# Altium integrated library TI Data Converters Digital to Analog Converter.IntLib: 1533 symbols (part 73 of 99)
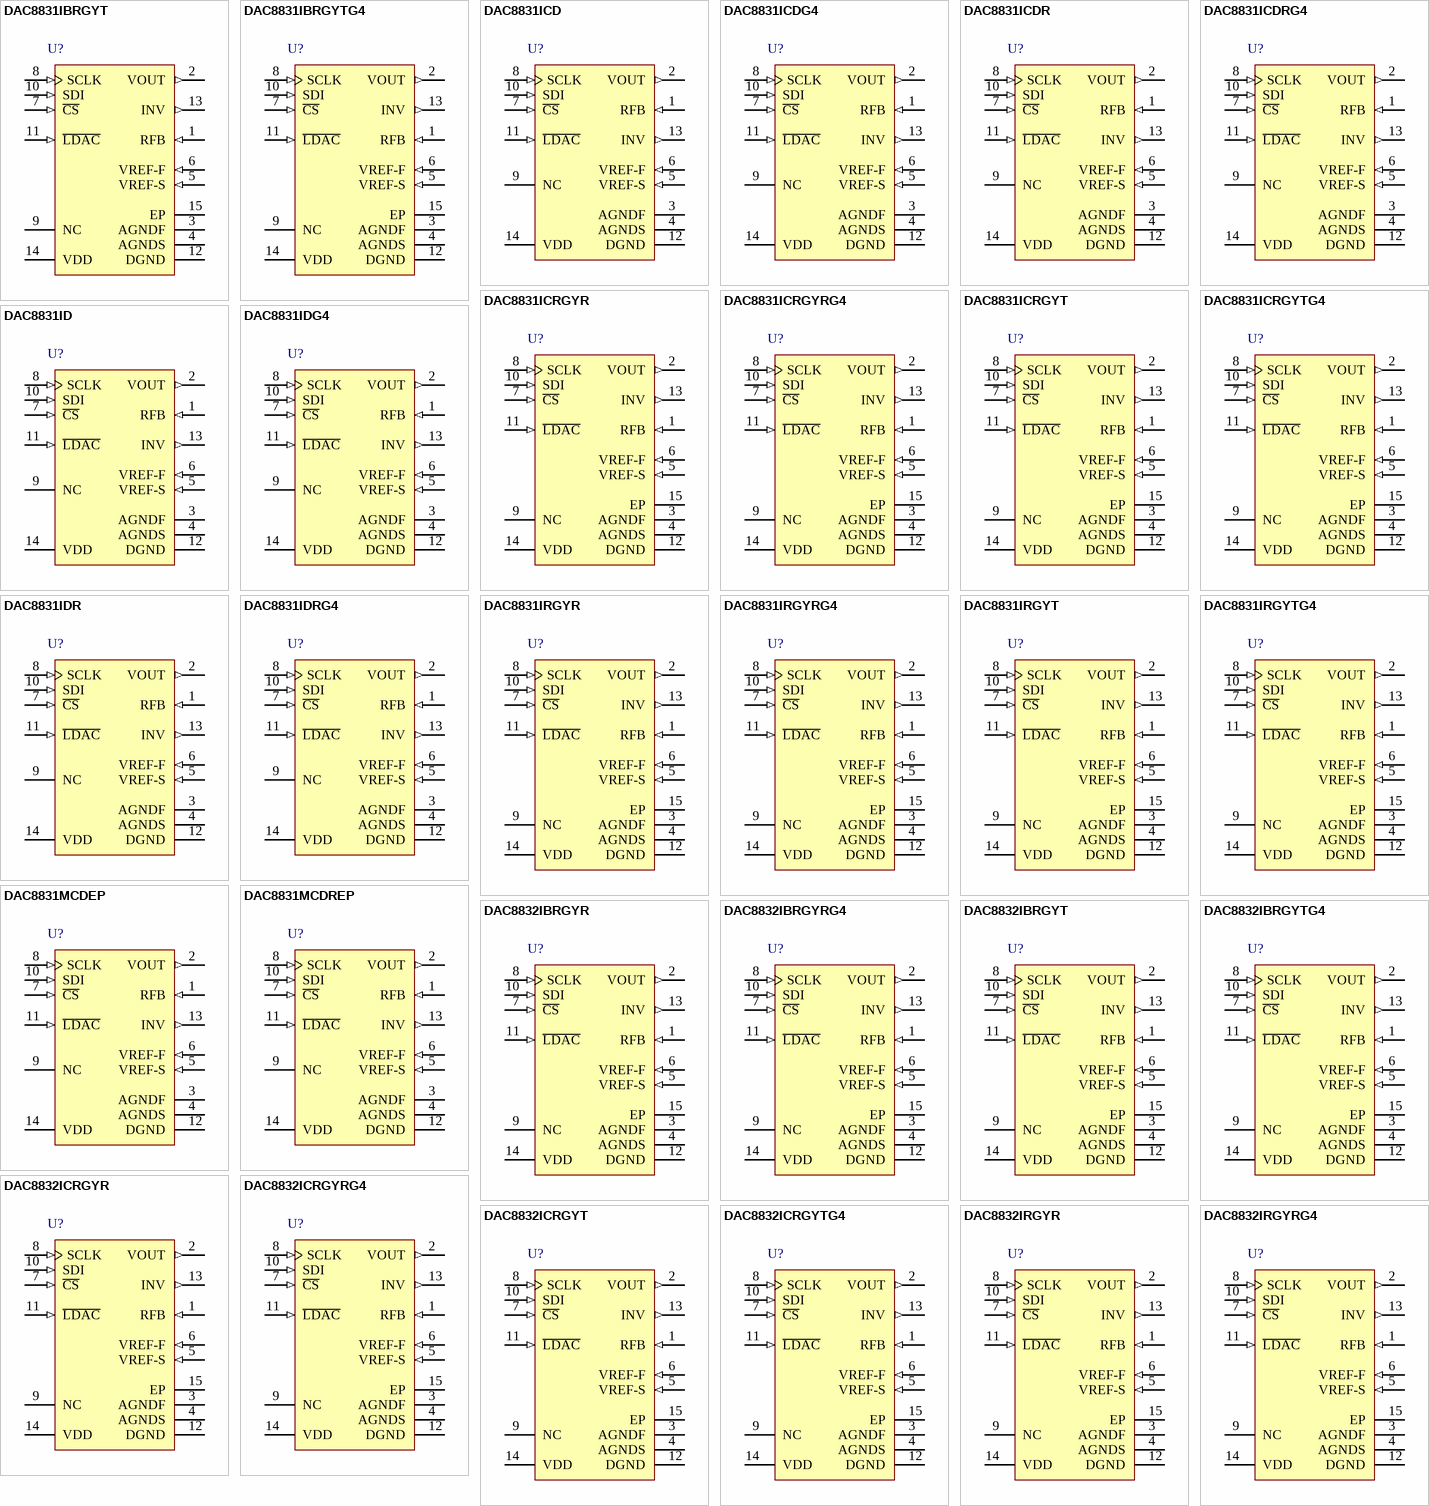
[diagram p145: symbols DAC8831IBRGYT to DAC8832IRGYRG4]

## DAC8832IBRGYRG4
designator U?
16-Bit Ultra-Low Power Voltage Output DAC, -40 to 85 degC, 14-pin QFN (RGY14), Green (RoHS & no Sb/Br); Manufacturer: Texas Instruments; PartNumber: DAC8832IBRGYRG4; DAC Channels: 1; INL(Max)(+/-LSB): 2; Interface: Serial SPI; Power Consumption(Typ)(mW): 0.015; Resolution(Bits): 16; SNR(dB): 92; SubFamily: Precision DAC (=<10MSPS); DatasheetVersion: SBAS380B; PackageVersion: 4203539-2/I, 06/2011; PackageReference: RGY14-2050X2050TP; PackageDescription: 14-Pin Plastic Flat Pack, Body 3.5 x 3.5 mm, Pitch 0.5 mm; Supplier 1: Digi-Key; Supplier Part Number 1: DAC8832IBRGYRG4-ND; Supplier 2: Mouser; Supplier Part Number 2: 595-DAC8832IBRGYRG4; DNL(Max)(+/-LSB): 1; Eco-Plan: Green (RoHS & no Sb/Br); Settling Time(us): 1; Mounting Technology: Surface Mount; Code_JEDEC: MO-241; ComponentLink1Description: Manufacturer URL; ComponentLink1URL: http://www.ti.com/; ComponentLink2Description: Datasheet; ComponentLink2URL: http://www.ti.com/general/docs/lit/getliterature.tsp?genericPartNumber=DAC8832&fileType=pdf; ComponentLink3Description: Package Specification; ComponentLink3URL: http://www.ti.com/lit/ml/mpqf114g/mpqf114g.pdf
footprint TI-RGY14-2050X2050TP_V (QFN, 14-Leads, Body 3.5x3.5mm, Pitch 0.5mm, Thermal Pad 2.05x2.05mm)
pins: 1 RFB (in) "Feedback resistor. Connect to the output of external operational amplifier in bipolar mode.", 2 VOUT (out) "Analog output of DAC", 3 AGNDF (power) "Analog ground (Force)", 4 AGNDS (power) "Analog ground (Sense)", 5 VREF-S (in) "Voltage reference input (Sense). Connect to external voltage reference", 6 VREF-F (in) "Voltage reference input (Force). Connect to external voltage reference", 7 ~{CS} (in) "Chip select input (active low). Data are not clocked into SDI unless C\S\ is low.", 8 SCLK (in) "Serial clock input.", 9 NC "No internal connection", 10 SDI (in) "Serial data input. Data are latched into input register on the rising edge of SCLK", 11 ~{LDAC} (in) "Load DAC control input. Active low. When L\D\A\C\ is Low, the DAC latch is simultaneously updated with the content of the input register.", 12 DGND (power) "Digital ground", 13 INV (out) "Junction point of internal scaling resistors. Connect to external operational amplifier inverting input in bipolar mode.", 14 VDD (power) "Analog power supply, +3 V to +5 V", 15 EP (power) "Exposed thermal pad in the QFN package must be connected to analog ground."

## DAC8832IBRGYT
designator U?
16-Bit Ultra-Low Power Voltage Output DAC, -40 to 85 degC, 14-pin QFN (RGY14), Green (RoHS & no Sb/Br); Manufacturer: Texas Instruments; PartNumber: DAC8832IBRGYT; DAC Channels: 1; INL(Max)(+/-LSB): 2; Interface: Serial SPI; Power Consumption(Typ)(mW): 0.015; Resolution(Bits): 16; SNR(dB): 92; SubFamily: Precision DAC (=<10MSPS); DatasheetVersion: SBAS380B; PackageVersion: 4203539-2/I, 06/2011; PackageReference: RGY14-2050X2050TP; PackageDescription: 14-Pin Plastic Flat Pack, Body 3.5 x 3.5 mm, Pitch 0.5 mm; Supplier 1: Digi-Key; Supplier Part Number 1: DAC8832IBRGYT-ND; Supplier 2: Mouser; Supplier Part Number 2: 595-DAC8832IBRGYT; DNL(Max)(+/-LSB): 1; Eco-Plan: Green (RoHS & no Sb/Br); Settling Time(us): 1; Mounting Technology: Surface Mount; Code_JEDEC: MO-241; ComponentLink1Description: Manufacturer URL; ComponentLink1URL: http://www.ti.com/; ComponentLink2Description: Datasheet; ComponentLink2URL: http://www.ti.com/general/docs/lit/getliterature.tsp?genericPartNumber=DAC8832&fileType=pdf; ComponentLink3Description: Package Specification; ComponentLink3URL: http://www.ti.com/lit/ml/mpqf114g/mpqf114g.pdf
footprint TI-RGY14-2050X2050TP_V (QFN, 14-Leads, Body 3.5x3.5mm, Pitch 0.5mm, Thermal Pad 2.05x2.05mm)
pins: 1 RFB (in) "Feedback resistor. Connect to the output of external operational amplifier in bipolar mode.", 2 VOUT (out) "Analog output of DAC", 3 AGNDF (power) "Analog ground (Force)", 4 AGNDS (power) "Analog ground (Sense)", 5 VREF-S (in) "Voltage reference input (Sense). Connect to external voltage reference", 6 VREF-F (in) "Voltage reference input (Force). Connect to external voltage reference", 7 ~{CS} (in) "Chip select input (active low). Data are not clocked into SDI unless C\S\ is low.", 8 SCLK (in) "Serial clock input.", 9 NC "No internal connection", 10 SDI (in) "Serial data input. Data are latched into input register on the rising edge of SCLK", 11 ~{LDAC} (in) "Load DAC control input. Active low. When L\D\A\C\ is Low, the DAC latch is simultaneously updated with the content of the input register.", 12 DGND (power) "Digital ground", 13 INV (out) "Junction point of internal scaling resistors. Connect to external operational amplifier inverting input in bipolar mode.", 14 VDD (power) "Analog power supply, +3 V to +5 V", 15 EP (power) "Exposed thermal pad in the QFN package must be connected to analog ground."

## DAC8832IBRGYTG4
designator U?
16-Bit Ultra-Low Power Voltage Output DAC, -40 to 85 degC, 14-pin QFN (RGY14), Green (RoHS & no Sb/Br); Manufacturer: Texas Instruments; PartNumber: DAC8832IBRGYTG4; DAC Channels: 1; INL(Max)(+/-LSB): 2; Interface: Serial SPI; Power Consumption(Typ)(mW): 0.015; Resolution(Bits): 16; SNR(dB): 92; SubFamily: Precision DAC (=<10MSPS); DatasheetVersion: SBAS380B; PackageVersion: 4203539-2/I, 06/2011; PackageReference: RGY14-2050X2050TP; PackageDescription: 14-Pin Plastic Flat Pack, Body 3.5 x 3.5 mm, Pitch 0.5 mm; Supplier 1: Digi-Key; Supplier Part Number 1: DAC8832IBRGYTG4-ND; Supplier 2: Mouser; Supplier Part Number 2: 595-DAC8832IBRGYTG4; DNL(Max)(+/-LSB): 1; Eco-Plan: Green (RoHS & no Sb/Br); Settling Time(us): 1; Mounting Technology: Surface Mount; Code_JEDEC: MO-241; ComponentLink1Description: Manufacturer URL; ComponentLink1URL: http://www.ti.com/; ComponentLink2Description: Datasheet; ComponentLink2URL: http://www.ti.com/general/docs/lit/getliterature.tsp?genericPartNumber=DAC8832&fileType=pdf; ComponentLink3Description: Package Specification; ComponentLink3URL: http://www.ti.com/lit/ml/mpqf114g/mpqf114g.pdf
footprint TI-RGY14-2050X2050TP_V (QFN, 14-Leads, Body 3.5x3.5mm, Pitch 0.5mm, Thermal Pad 2.05x2.05mm)
pins: 1 RFB (in) "Feedback resistor. Connect to the output of external operational amplifier in bipolar mode.", 2 VOUT (out) "Analog output of DAC", 3 AGNDF (power) "Analog ground (Force)", 4 AGNDS (power) "Analog ground (Sense)", 5 VREF-S (in) "Voltage reference input (Sense). Connect to external voltage reference", 6 VREF-F (in) "Voltage reference input (Force). Connect to external voltage reference", 7 ~{CS} (in) "Chip select input (active low). Data are not clocked into SDI unless C\S\ is low.", 8 SCLK (in) "Serial clock input.", 9 NC "No internal connection", 10 SDI (in) "Serial data input. Data are latched into input register on the rising edge of SCLK", 11 ~{LDAC} (in) "Load DAC control input. Active low. When L\D\A\C\ is Low, the DAC latch is simultaneously updated with the content of the input register.", 12 DGND (power) "Digital ground", 13 INV (out) "Junction point of internal scaling resistors. Connect to external operational amplifier inverting input in bipolar mode.", 14 VDD (power) "Analog power supply, +3 V to +5 V", 15 EP (power) "Exposed thermal pad in the QFN package must be connected to analog ground."

## DAC8832ICRGYR
designator U?
16-Bit Ultra-Low Power Voltage Output DAC, -40 to 85 degC, 14-pin QFN (RGY14), Green (RoHS & no Sb/Br); Manufacturer: Texas Instruments; PartNumber: DAC8832ICRGYR; DAC Channels: 1; Interface: Serial SPI; Power Consumption(Typ)(mW): 0.015; Resolution(Bits): 16; SNR(dB): 92; SubFamily: Precision DAC (=<10MSPS); DatasheetVersion: SBAS380B; PackageVersion: 4203539-2/I, 06/2011; PackageReference: RGY14-2050X2050TP; PackageDescription: 14-Pin Plastic Flat Pack, Body 3.5 x 3.5 mm, Pitch 0.5 mm; Supplier 1: Digi-Key; Supplier Part Number 1: DAC8832ICRGYR-ND; Supplier 2: Newark; Supplier Part Number 2: 81K1788; Supplier 3: Mouser; Supplier Part Number 3: 595-DAC8832ICRGYR; DNL(Max)(+/-LSB): 1; Eco-Plan: Green (RoHS & no Sb/Br); INL(Max)(+/-LSB): 1; Settling Time(us): 1; Mounting Technology: Surface Mount; Code_JEDEC: MO-241; ComponentLink1Description: Manufacturer URL; ComponentLink1URL: http://www.ti.com/; ComponentLink2Description: Datasheet; ComponentLink2URL: http://www.ti.com/general/docs/lit/getliterature.tsp?genericPartNumber=DAC8832&fileType=pdf; ComponentLink3Description: Package Specification; ComponentLink3URL: http://www.ti.com/lit/ml/mpqf114g/mpqf114g.pdf
footprint TI-RGY14-2050X2050TP_V (QFN, 14-Leads, Body 3.5x3.5mm, Pitch 0.5mm, Thermal Pad 2.05x2.05mm)
pins: 1 RFB (in) "Feedback resistor. Connect to the output of external operational amplifier in bipolar mode.", 2 VOUT (out) "Analog output of DAC", 3 AGNDF (power) "Analog ground (Force)", 4 AGNDS (power) "Analog ground (Sense)", 5 VREF-S (in) "Voltage reference input (Sense). Connect to external voltage reference", 6 VREF-F (in) "Voltage reference input (Force). Connect to external voltage reference", 7 ~{CS} (in) "Chip select input (active low). Data are not clocked into SDI unless C\S\ is low.", 8 SCLK (in) "Serial clock input.", 9 NC "No internal connection", 10 SDI (in) "Serial data input. Data are latched into input register on the rising edge of SCLK", 11 ~{LDAC} (in) "Load DAC control input. Active low. When L\D\A\C\ is Low, the DAC latch is simultaneously updated with the content of the input register.", 12 DGND (power) "Digital ground", 13 INV (out) "Junction point of internal scaling resistors. Connect to external operational amplifier inverting input in bipolar mode.", 14 VDD (power) "Analog power supply, +3 V to +5 V", 15 EP (power) "Exposed thermal pad in the QFN package must be connected to analog ground."

## DAC8832ICRGYRG4
designator U?
16-Bit Ultra-Low Power Voltage Output DAC, -40 to 85 degC, 14-pin QFN (RGY14), Green (RoHS & no Sb/Br); Manufacturer: Texas Instruments; PartNumber: DAC8832ICRGYRG4; DAC Channels: 1; Interface: Serial SPI; Power Consumption(Typ)(mW): 0.015; Resolution(Bits): 16; SNR(dB): 92; SubFamily: Precision DAC (=<10MSPS); DatasheetVersion: SBAS380B; PackageVersion: 4203539-2/I, 06/2011; PackageReference: RGY14-2050X2050TP; PackageDescription: 14-Pin Plastic Flat Pack, Body 3.5 x 3.5 mm, Pitch 0.5 mm; Supplier 1: Digi-Key; Supplier Part Number 1: DAC8832ICRGYRG4-ND; Supplier 2: Mouser; Supplier Part Number 2: 595-DAC8832ICRGYRG4; DNL(Max)(+/-LSB): 1; Eco-Plan: Green (RoHS & no Sb/Br); INL(Max)(+/-LSB): 1; Settling Time(us): 1; Mounting Technology: Surface Mount; Code_JEDEC: MO-241; ComponentLink1Description: Manufacturer URL; ComponentLink1URL: http://www.ti.com/; ComponentLink2Description: Datasheet; ComponentLink2URL: http://www.ti.com/general/docs/lit/getliterature.tsp?genericPartNumber=DAC8832&fileType=pdf; ComponentLink3Description: Package Specification; ComponentLink3URL: http://www.ti.com/lit/ml/mpqf114g/mpqf114g.pdf
footprint TI-RGY14-2050X2050TP_V (QFN, 14-Leads, Body 3.5x3.5mm, Pitch 0.5mm, Thermal Pad 2.05x2.05mm)
pins: 1 RFB (in) "Feedback resistor. Connect to the output of external operational amplifier in bipolar mode.", 2 VOUT (out) "Analog output of DAC", 3 AGNDF (power) "Analog ground (Force)", 4 AGNDS (power) "Analog ground (Sense)", 5 VREF-S (in) "Voltage reference input (Sense). Connect to external voltage reference", 6 VREF-F (in) "Voltage reference input (Force). Connect to external voltage reference", 7 ~{CS} (in) "Chip select input (active low). Data are not clocked into SDI unless C\S\ is low.", 8 SCLK (in) "Serial clock input.", 9 NC "No internal connection", 10 SDI (in) "Serial data input. Data are latched into input register on the rising edge of SCLK", 11 ~{LDAC} (in) "Load DAC control input. Active low. When L\D\A\C\ is Low, the DAC latch is simultaneously updated with the content of the input register.", 12 DGND (power) "Digital ground", 13 INV (out) "Junction point of internal scaling resistors. Connect to external operational amplifier inverting input in bipolar mode.", 14 VDD (power) "Analog power supply, +3 V to +5 V", 15 EP (power) "Exposed thermal pad in the QFN package must be connected to analog ground."

## DAC8832ICRGYT
designator U?
16-Bit Ultra-Low Power Voltage Output DAC, -40 to 85 degC, 14-pin QFN (RGY14), Green (RoHS & no Sb/Br); Manufacturer: Texas Instruments; PartNumber: DAC8832ICRGYT; DAC Channels: 1; Interface: Serial SPI; Power Consumption(Typ)(mW): 0.015; Resolution(Bits): 16; SNR(dB): 92; SubFamily: Precision DAC (=<10MSPS); DatasheetVersion: SBAS380B; PackageVersion: 4203539-2/I, 06/2011; PackageReference: RGY14-2050X2050TP; PackageDescription: 14-Pin Plastic Flat Pack, Body 3.5 x 3.5 mm, Pitch 0.5 mm; Supplier 1: Digi-Key; Supplier Part Number 1: 296-19588-2-ND; Supplier 2: Digi-Key; Supplier Part Number 2: 296-19588-1-ND; Supplier 3: Digi-Key; Supplier Part Number 3: 296-19588-6-ND; Supplier 4: Mouser; Supplier Part Number 4: 595-DAC8832ICRGYT; DNL(Max)(+/-LSB): 1; Eco-Plan: Green (RoHS & no Sb/Br); INL(Max)(+/-LSB): 1; Settling Time(us): 1; Mounting Technology: Surface Mount; Code_JEDEC: MO-241; ComponentLink1Description: Manufacturer URL; ComponentLink1URL: http://www.ti.com/; ComponentLink2Description: Datasheet; ComponentLink2URL: http://www.ti.com/general/docs/lit/getliterature.tsp?genericPartNumber=DAC8832&fileType=pdf; ComponentLink3Description: Package Specification; ComponentLink3URL: http://www.ti.com/lit/ml/mpqf114g/mpqf114g.pdf
footprint TI-RGY14-2050X2050TP_V (QFN, 14-Leads, Body 3.5x3.5mm, Pitch 0.5mm, Thermal Pad 2.05x2.05mm)
pins: 1 RFB (in) "Feedback resistor. Connect to the output of external operational amplifier in bipolar mode.", 2 VOUT (out) "Analog output of DAC", 3 AGNDF (power) "Analog ground (Force)", 4 AGNDS (power) "Analog ground (Sense)", 5 VREF-S (in) "Voltage reference input (Sense). Connect to external voltage reference", 6 VREF-F (in) "Voltage reference input (Force). Connect to external voltage reference", 7 ~{CS} (in) "Chip select input (active low). Data are not clocked into SDI unless C\S\ is low.", 8 SCLK (in) "Serial clock input.", 9 NC "No internal connection", 10 SDI (in) "Serial data input. Data are latched into input register on the rising edge of SCLK", 11 ~{LDAC} (in) "Load DAC control input. Active low. When L\D\A\C\ is Low, the DAC latch is simultaneously updated with the content of the input register.", 12 DGND (power) "Digital ground", 13 INV (out) "Junction point of internal scaling resistors. Connect to external operational amplifier inverting input in bipolar mode.", 14 VDD (power) "Analog power supply, +3 V to +5 V", 15 EP (power) "Exposed thermal pad in the QFN package must be connected to analog ground."

## DAC8832ICRGYTG4
designator U?
16-Bit Ultra-Low Power Voltage Output DAC, -40 to 85 degC, 14-pin QFN (RGY14), Green (RoHS & no Sb/Br); Manufacturer: Texas Instruments; PartNumber: DAC8832ICRGYTG4; DAC Channels: 1; Interface: Serial SPI; Power Consumption(Typ)(mW): 0.015; Resolution(Bits): 16; SNR(dB): 92; SubFamily: Precision DAC (=<10MSPS); DatasheetVersion: SBAS380B; PackageVersion: 4203539-2/I, 06/2011; PackageReference: RGY14-2050X2050TP; PackageDescription: 14-Pin Plastic Flat Pack, Body 3.5 x 3.5 mm, Pitch 0.5 mm; Supplier 1: Digi-Key; Supplier Part Number 1: DAC8832ICRGYTG4-ND; Supplier 2: Mouser; Supplier Part Number 2: 595-DAC8832ICRGYTG4; DNL(Max)(+/-LSB): 1; Eco-Plan: Green (RoHS & no Sb/Br); INL(Max)(+/-LSB): 1; Settling Time(us): 1; Mounting Technology: Surface Mount; Code_JEDEC: MO-241; ComponentLink1Description: Manufacturer URL; ComponentLink1URL: http://www.ti.com/; ComponentLink2Description: Datasheet; ComponentLink2URL: http://www.ti.com/general/docs/lit/getliterature.tsp?genericPartNumber=DAC8832&fileType=pdf; ComponentLink3Description: Package Specification; ComponentLink3URL: http://www.ti.com/lit/ml/mpqf114g/mpqf114g.pdf
footprint TI-RGY14-2050X2050TP_V (QFN, 14-Leads, Body 3.5x3.5mm, Pitch 0.5mm, Thermal Pad 2.05x2.05mm)
pins: 1 RFB (in) "Feedback resistor. Connect to the output of external operational amplifier in bipolar mode.", 2 VOUT (out) "Analog output of DAC", 3 AGNDF (power) "Analog ground (Force)", 4 AGNDS (power) "Analog ground (Sense)", 5 VREF-S (in) "Voltage reference input (Sense). Connect to external voltage reference", 6 VREF-F (in) "Voltage reference input (Force). Connect to external voltage reference", 7 ~{CS} (in) "Chip select input (active low). Data are not clocked into SDI unless C\S\ is low.", 8 SCLK (in) "Serial clock input.", 9 NC "No internal connection", 10 SDI (in) "Serial data input. Data are latched into input register on the rising edge of SCLK", 11 ~{LDAC} (in) "Load DAC control input. Active low. When L\D\A\C\ is Low, the DAC latch is simultaneously updated with the content of the input register.", 12 DGND (power) "Digital ground", 13 INV (out) "Junction point of internal scaling resistors. Connect to external operational amplifier inverting input in bipolar mode.", 14 VDD (power) "Analog power supply, +3 V to +5 V", 15 EP (power) "Exposed thermal pad in the QFN package must be connected to analog ground."

## DAC8832IRGYR
designator U?
16-Bit Ultra-Low Power Voltage Output DAC, -40 to 85 degC, 14-pin QFN (RGY14), Green (RoHS & no Sb/Br); Manufacturer: Texas Instruments; PartNumber: DAC8832IRGYR; DAC Channels: 1; INL(Max)(+/-LSB): 4; Interface: Serial SPI; Power Consumption(Typ)(mW): 0.015; Resolution(Bits): 16; SNR(dB): 92; SubFamily: Precision DAC (=<10MSPS); DatasheetVersion: SBAS380B; PackageVersion: 4203539-2/I, 06/2011; PackageReference: RGY14-2050X2050TP; PackageDescription: 14-Pin Plastic Flat Pack, Body 3.5 x 3.5 mm, Pitch 0.5 mm; Supplier 1: Digi-Key; Supplier Part Number 1: 296-25818-2-ND; Supplier 2: Digi-Key; Supplier Part Number 2: 296-25818-1-ND; Supplier 3: Digi-Key; Supplier Part Number 3: 296-25818-6-ND; Supplier 4: Newark; Supplier Part Number 4: 81K1790; Supplier 5: Mouser; Supplier Part Number 5: 595-DAC8832IRGYR; DNL(Max)(+/-LSB): 1; Eco-Plan: Green (RoHS & no Sb/Br); Settling Time(us): 1; Mounting Technology: Surface Mount; Code_JEDEC: MO-241; ComponentLink1Description: Manufacturer URL; ComponentLink1URL: http://www.ti.com/; ComponentLink2Description: Datasheet; ComponentLink2URL: http://www.ti.com/general/docs/lit/getliterature.tsp?genericPartNumber=DAC8832&fileType=pdf; ComponentLink3Description: Package Specification; ComponentLink3URL: http://www.ti.com/lit/ml/mpqf114g/mpqf114g.pdf
footprint TI-RGY14-2050X2050TP_V (QFN, 14-Leads, Body 3.5x3.5mm, Pitch 0.5mm, Thermal Pad 2.05x2.05mm)
pins: 1 RFB (in) "Feedback resistor. Connect to the output of external operational amplifier in bipolar mode.", 2 VOUT (out) "Analog output of DAC", 3 AGNDF (power) "Analog ground (Force)", 4 AGNDS (power) "Analog ground (Sense)", 5 VREF-S (in) "Voltage reference input (Sense). Connect to external voltage reference", 6 VREF-F (in) "Voltage reference input (Force). Connect to external voltage reference", 7 ~{CS} (in) "Chip select input (active low). Data are not clocked into SDI unless C\S\ is low.", 8 SCLK (in) "Serial clock input.", 9 NC "No internal connection", 10 SDI (in) "Serial data input. Data are latched into input register on the rising edge of SCLK", 11 ~{LDAC} (in) "Load DAC control input. Active low. When L\D\A\C\ is Low, the DAC latch is simultaneously updated with the content of the input register.", 12 DGND (power) "Digital ground", 13 INV (out) "Junction point of internal scaling resistors. Connect to external operational amplifier inverting input in bipolar mode.", 14 VDD (power) "Analog power supply, +3 V to +5 V", 15 EP (power) "Exposed thermal pad in the QFN package must be connected to analog ground."

## DAC8832IRGYRG4
designator U?
16-Bit Ultra-Low Power Voltage Output DAC, -40 to 85 degC, 14-pin QFN (RGY14), Green (RoHS & no Sb/Br); Manufacturer: Texas Instruments; PartNumber: DAC8832IRGYRG4; DAC Channels: 1; INL(Max)(+/-LSB): 4; Interface: Serial SPI; Power Consumption(Typ)(mW): 0.015; Resolution(Bits): 16; SNR(dB): 92; SubFamily: Precision DAC (=<10MSPS); DatasheetVersion: SBAS380B; PackageVersion: 4203539-2/I, 06/2011; PackageReference: RGY14-2050X2050TP; PackageDescription: 14-Pin Plastic Flat Pack, Body 3.5 x 3.5 mm, Pitch 0.5 mm; Supplier 1: Digi-Key; Supplier Part Number 1: DAC8832IRGYRG4-ND; Supplier 2: Mouser; Supplier Part Number 2: 595-DAC8832IRGYRG4; DNL(Max)(+/-LSB): 1; Eco-Plan: Green (RoHS & no Sb/Br); Settling Time(us): 1; Mounting Technology: Surface Mount; Code_JEDEC: MO-241; ComponentLink1Description: Manufacturer URL; ComponentLink1URL: http://www.ti.com/; ComponentLink2Description: Datasheet; ComponentLink2URL: http://www.ti.com/general/docs/lit/getliterature.tsp?genericPartNumber=DAC8832&fileType=pdf; ComponentLink3Description: Package Specification; ComponentLink3URL: http://www.ti.com/lit/ml/mpqf114g/mpqf114g.pdf
footprint TI-RGY14-2050X2050TP_V (QFN, 14-Leads, Body 3.5x3.5mm, Pitch 0.5mm, Thermal Pad 2.05x2.05mm)
pins: 1 RFB (in) "Feedback resistor. Connect to the output of external operational amplifier in bipolar mode.", 2 VOUT (out) "Analog output of DAC", 3 AGNDF (power) "Analog ground (Force)", 4 AGNDS (power) "Analog ground (Sense)", 5 VREF-S (in) "Voltage reference input (Sense). Connect to external voltage reference", 6 VREF-F (in) "Voltage reference input (Force). Connect to external voltage reference", 7 ~{CS} (in) "Chip select input (active low). Data are not clocked into SDI unless C\S\ is low.", 8 SCLK (in) "Serial clock input.", 9 NC "No internal connection", 10 SDI (in) "Serial data input. Data are latched into input register on the rising edge of SCLK", 11 ~{LDAC} (in) "Load DAC control input. Active low. When L\D\A\C\ is Low, the DAC latch is simultaneously updated with the content of the input register.", 12 DGND (power) "Digital ground", 13 INV (out) "Junction point of internal scaling resistors. Connect to external operational amplifier inverting input in bipolar mode.", 14 VDD (power) "Analog power supply, +3 V to +5 V", 15 EP (power) "Exposed thermal pad in the QFN package must be connected to analog ground."

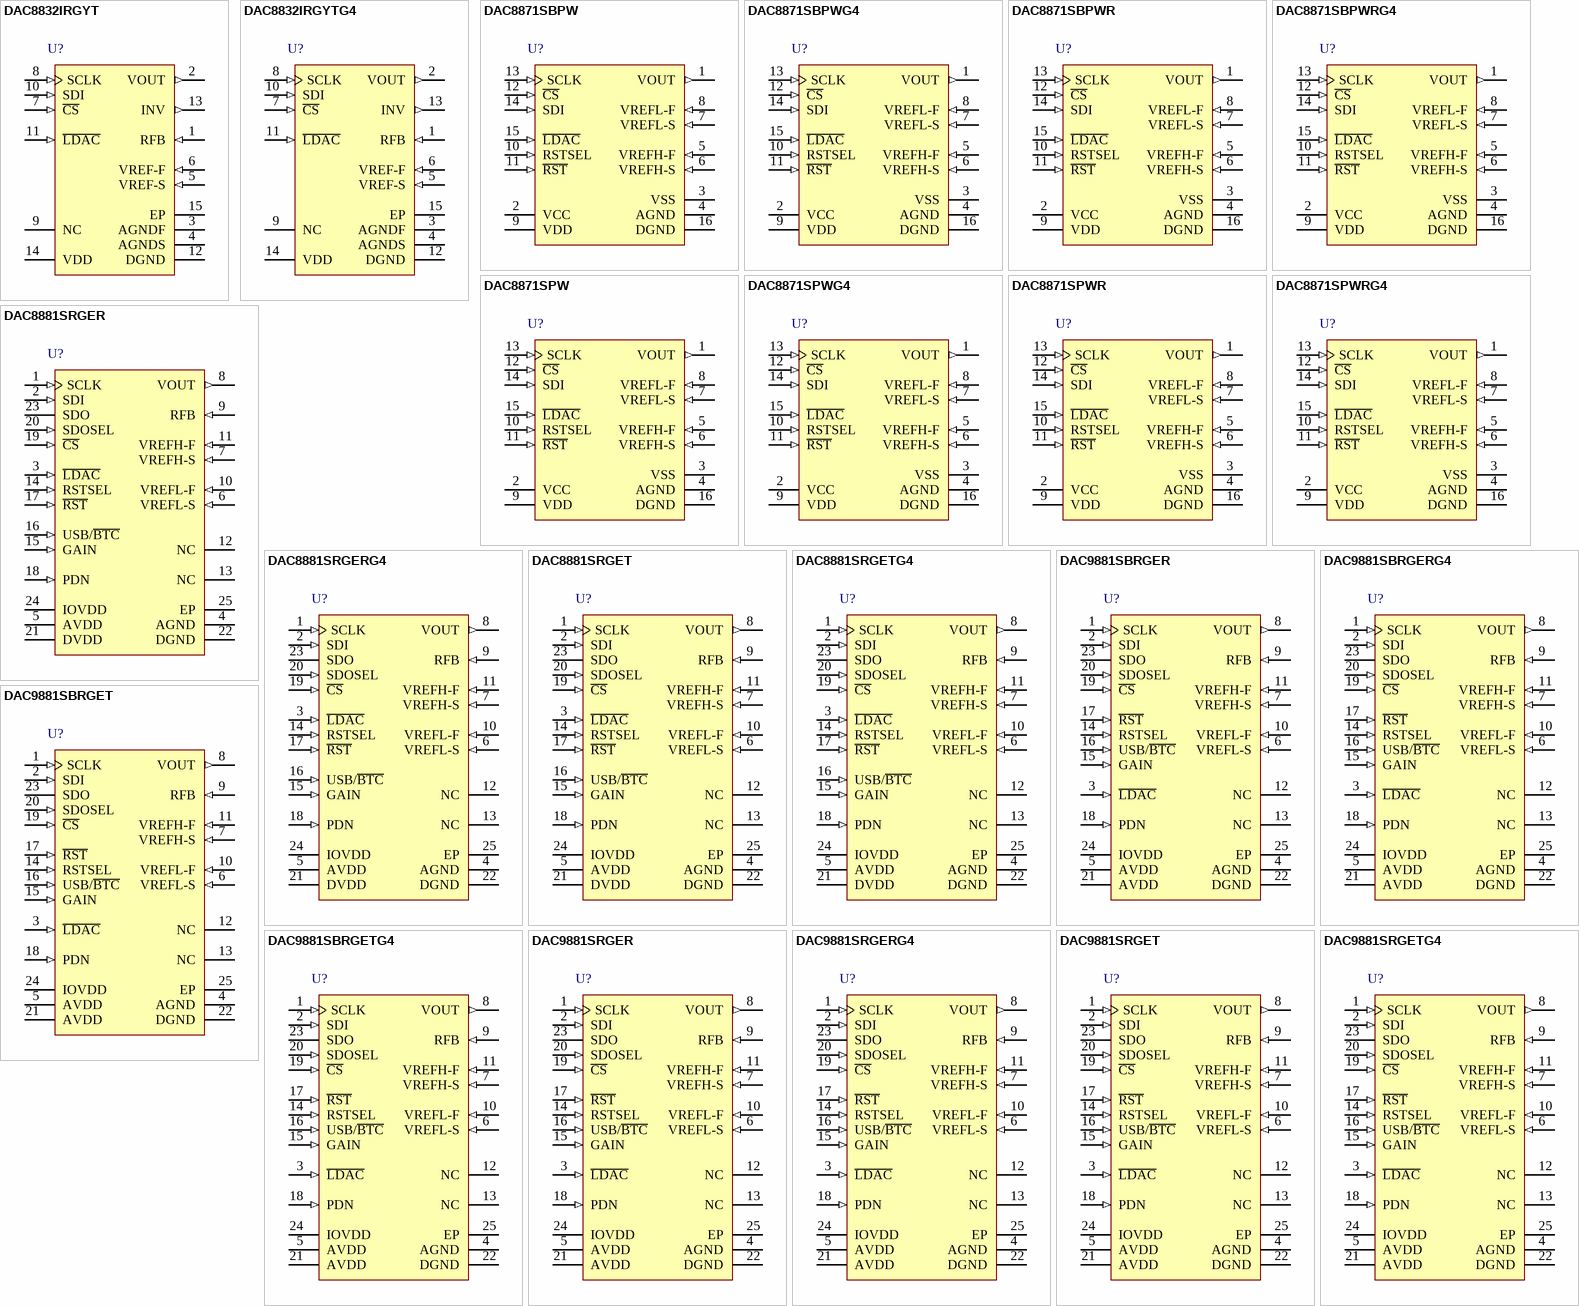
[diagram p55: symbols DAC8832IRGYT to DAC9881SRGETG4]

## DAC8832IRGYT
designator U?
16-Bit Ultra-Low Power Voltage Output DAC, -40 to 85 degC, 14-pin QFN (RGY14), Green (RoHS & no Sb/Br); Manufacturer: Texas Instruments; PartNumber: DAC8832IRGYT; DAC Channels: 1; INL(Max)(+/-LSB): 4; Interface: Serial SPI; Power Consumption(Typ)(mW): 0.015; Resolution(Bits): 16; SNR(dB): 92; SubFamily: Precision DAC (=<10MSPS); DatasheetVersion: SBAS380B; PackageVersion: 4203539-2/I, 06/2011; PackageReference: RGY14-2050X2050TP; PackageDescription: 14-Pin Plastic Flat Pack, Body 3.5 x 3.5 mm, Pitch 0.5 mm; Supplier 1: Digi-Key; Supplier Part Number 1: DAC8832IRGYT-ND; Supplier 2: Mouser; Supplier Part Number 2: 595-DAC8832IRGYT; DNL(Max)(+/-LSB): 1; Eco-Plan: Green (RoHS & no Sb/Br); Settling Time(us): 1; Mounting Technology: Surface Mount; Code_JEDEC: MO-241; ComponentLink1Description: Manufacturer URL; ComponentLink1URL: http://www.ti.com/; ComponentLink2Description: Datasheet; ComponentLink2URL: http://www.ti.com/general/docs/lit/getliterature.tsp?genericPartNumber=DAC8832&fileType=pdf; ComponentLink3Description: Package Specification; ComponentLink3URL: http://www.ti.com/lit/ml/mpqf114g/mpqf114g.pdf
footprint TI-RGY14-2050X2050TP_V (QFN, 14-Leads, Body 3.5x3.5mm, Pitch 0.5mm, Thermal Pad 2.05x2.05mm)
pins: 1 RFB (in) "Feedback resistor. Connect to the output of external operational amplifier in bipolar mode.", 2 VOUT (out) "Analog output of DAC", 3 AGNDF (power) "Analog ground (Force)", 4 AGNDS (power) "Analog ground (Sense)", 5 VREF-S (in) "Voltage reference input (Sense). Connect to external voltage reference", 6 VREF-F (in) "Voltage reference input (Force). Connect to external voltage reference", 7 ~{CS} (in) "Chip select input (active low). Data are not clocked into SDI unless C\S\ is low.", 8 SCLK (in) "Serial clock input.", 9 NC "No internal connection", 10 SDI (in) "Serial data input. Data are latched into input register on the rising edge of SCLK", 11 ~{LDAC} (in) "Load DAC control input. Active low. When L\D\A\C\ is Low, the DAC latch is simultaneously updated with the content of the input register.", 12 DGND (power) "Digital ground", 13 INV (out) "Junction point of internal scaling resistors. Connect to external operational amplifier inverting input in bipolar mode.", 14 VDD (power) "Analog power supply, +3 V to +5 V", 15 EP (power) "Exposed thermal pad in the QFN package must be connected to analog ground."

## DAC8832IRGYTG4
designator U?
16-Bit Ultra-Low Power Voltage Output DAC, -40 to 85 degC, 14-pin QFN (RGY14), Green (RoHS & no Sb/Br); Manufacturer: Texas Instruments; PartNumber: DAC8832IRGYTG4; DAC Channels: 1; INL(Max)(+/-LSB): 4; Interface: Serial SPI; Power Consumption(Typ)(mW): 0.015; Resolution(Bits): 16; SNR(dB): 92; SubFamily: Precision DAC (=<10MSPS); DatasheetVersion: SBAS380B; PackageVersion: 4203539-2/I, 06/2011; PackageReference: RGY14-2050X2050TP; PackageDescription: 14-Pin Plastic Flat Pack, Body 3.5 x 3.5 mm, Pitch 0.5 mm; Supplier 1: Digi-Key; Supplier Part Number 1: DAC8832IRGYTG4-ND; Supplier 2: Mouser; Supplier Part Number 2: 595-DAC8832IRGYTG4; DNL(Max)(+/-LSB): 1; Eco-Plan: Green (RoHS & no Sb/Br); Settling Time(us): 1; Mounting Technology: Surface Mount; Code_JEDEC: MO-241; ComponentLink1Description: Manufacturer URL; ComponentLink1URL: http://www.ti.com/; ComponentLink2Description: Datasheet; ComponentLink2URL: http://www.ti.com/general/docs/lit/getliterature.tsp?genericPartNumber=DAC8832&fileType=pdf; ComponentLink3Description: Package Specification; ComponentLink3URL: http://www.ti.com/lit/ml/mpqf114g/mpqf114g.pdf
footprint TI-RGY14-2050X2050TP_V (QFN, 14-Leads, Body 3.5x3.5mm, Pitch 0.5mm, Thermal Pad 2.05x2.05mm)
pins: 1 RFB (in) "Feedback resistor. Connect to the output of external operational amplifier in bipolar mode.", 2 VOUT (out) "Analog output of DAC", 3 AGNDF (power) "Analog ground (Force)", 4 AGNDS (power) "Analog ground (Sense)", 5 VREF-S (in) "Voltage reference input (Sense). Connect to external voltage reference", 6 VREF-F (in) "Voltage reference input (Force). Connect to external voltage reference", 7 ~{CS} (in) "Chip select input (active low). Data are not clocked into SDI unless C\S\ is low.", 8 SCLK (in) "Serial clock input.", 9 NC "No internal connection", 10 SDI (in) "Serial data input. Data are latched into input register on the rising edge of SCLK", 11 ~{LDAC} (in) "Load DAC control input. Active low. When L\D\A\C\ is Low, the DAC latch is simultaneously updated with the content of the input register.", 12 DGND (power) "Digital ground", 13 INV (out) "Junction point of internal scaling resistors. Connect to external operational amplifier inverting input in bipolar mode.", 14 VDD (power) "Analog power supply, +3 V to +5 V", 15 EP (power) "Exposed thermal pad in the QFN package must be connected to analog ground."

## DAC8871SBPW
designator U?
16-Bit Single Channel, Serial Interface, + / -18 V (High Voltage Bipolar) Output DAC, -40 to 105 degC, 16-pin SOP (PW16), Green (RoHS & no Sb/Br); Manufacturer: Texas Instruments; PartNumber: DAC8871SBPW; DAC Channels: 1; Interface: Serial SPI; Power Consumption(Typ)(mW): 0.015; Resolution(Bits): 16; SubFamily: Precision DAC (=<10MSPS); DatasheetVersion: SBAS396A; PackageVersion: 4040064-4/G, 02/2011; PackageReference: PW16; PackageDescription: 16-Pin Plastic Small Outline, Body 5 x 4.4 mm, Pitch 0.65 mm; Supplier 1: Digi-Key; Supplier Part Number 1: 296-22150-5-ND; Supplier 2: Mouser; Supplier Part Number 2: 595-DAC8871SBPW; DNL(Max)(+/-LSB): 1; Eco-Plan: Green (RoHS & no Sb/Br); INL(Max)(+/-LSB): 1; Settling Time(us): 1; Mounting Technology: Surface Mount; Code_JEDEC: MO-153; ComponentLink1Description: Manufacturer URL; ComponentLink1URL: http://www.ti.com/; ComponentLink2Description: Datasheet; ComponentLink2URL: http://www.ti.com/general/docs/lit/getliterature.tsp?genericPartNumber=DAC8871&fileType=pdf; ComponentLink3Description: Package Specification; ComponentLink3URL: http://www.ti.com/lit/ml/mpds361/mpds361.pdf
footprint TI-PW16_N (SOP, 16-Leads, Body 5x4.4mm, Pitch 0.65mm, IPC Medium Density)
footprint TI-PW16_L (SOP, 16-Leads, Body 5x4.4mm, Pitch 0.65mm, IPC High Density)
footprint TI-PW16_M (SOP, 16-Leads, Body 5x4.4mm, Pitch 0.65mm, IPC Low Density)
pins: 1 VOUT (out) "Analog output of the DAC", 2 VCC (power) "Positive analog power supply: +15V", 3 VSS (power) "Negative analog power supply: -15V", 4 AGND (power) "Analog ground", 5 VREFH-F (in) "VREFH reference input (Force). Connect to external VREFH.", 6 VREFH-S (in) "VREFH reference input (Sense). Connect to external VREFH.", 7 VREFL-S (in) "VREFL reference input (Sense). Connect to external VREFL.", 8 VREFL-F (in) "VREFL reference input (Force). Connect to external VREFL.", 9 VDD (power) "Digital power. +5V for 5V interface logic; +3V for 3V logic.", 10 RSTSEL (in) "Power-On-Reset select. Determines VOUT after power-on reset. If tied to VDD, the DAC latch is set to mid-scale after power-on, and VOUT is (VREFH - VREFL)/2. If tied to DGND, the DAC latch is cleared ('0'), and VOUT is VREFL.", 11 ~{RST} (in) "Reset (active low)", 12 ~{CS} (in) "Chip select input (active low). Data are not clocked into SDI unless C\S\ is low.", 13 SCLK (in) "Serial clock input", 14 SDI (in) "Serial data input. Data are latched into input register on the rising edge of SCLK.", 15 ~{LDAC} (in) "Load DAC control input (active low). When L\D\A\C\ is low, the DAC latch is simultaneously updated with the content of the input register.", 16 DGND (power) "Digital ground"

## DAC8871SBPWG4
designator U?
16-Bit Single Channel, Serial Interface, + / -18 V (High Voltage Bipolar) Output DAC, -40 to 105 degC, 16-pin SOP (PW16), Green (RoHS & no Sb/Br); Manufacturer: Texas Instruments; PartNumber: DAC8871SBPWG4; DAC Channels: 1; Interface: Serial SPI; Power Consumption(Typ)(mW): 0.015; Resolution(Bits): 16; SubFamily: Precision DAC (=<10MSPS); DatasheetVersion: SBAS396A; PackageVersion: 4040064-4/G, 02/2011; PackageReference: PW16; PackageDescription: 16-Pin Plastic Small Outline, Body 5 x 4.4 mm, Pitch 0.65 mm; Supplier 1: Digi-Key; Supplier Part Number 1: DAC8871SBPWG4-ND; Supplier 2: Mouser; Supplier Part Number 2: 595-DAC8871SBPWG4; DNL(Max)(+/-LSB): 1; Eco-Plan: Green (RoHS & no Sb/Br); INL(Max)(+/-LSB): 1; Settling Time(us): 1; Mounting Technology: Surface Mount; Code_JEDEC: MO-153; ComponentLink1Description: Manufacturer URL; ComponentLink1URL: http://www.ti.com/; ComponentLink2Description: Datasheet; ComponentLink2URL: http://www.ti.com/general/docs/lit/getliterature.tsp?genericPartNumber=DAC8871&fileType=pdf; ComponentLink3Description: Package Specification; ComponentLink3URL: http://www.ti.com/lit/ml/mpds361/mpds361.pdf
footprint TI-PW16_N (SOP, 16-Leads, Body 5x4.4mm, Pitch 0.65mm, IPC Medium Density)
footprint TI-PW16_L (SOP, 16-Leads, Body 5x4.4mm, Pitch 0.65mm, IPC High Density)
footprint TI-PW16_M (SOP, 16-Leads, Body 5x4.4mm, Pitch 0.65mm, IPC Low Density)
pins: 1 VOUT (out) "Analog output of the DAC", 2 VCC (power) "Positive analog power supply: +15V", 3 VSS (power) "Negative analog power supply: -15V", 4 AGND (power) "Analog ground", 5 VREFH-F (in) "VREFH reference input (Force). Connect to external VREFH.", 6 VREFH-S (in) "VREFH reference input (Sense). Connect to external VREFH.", 7 VREFL-S (in) "VREFL reference input (Sense). Connect to external VREFL.", 8 VREFL-F (in) "VREFL reference input (Force). Connect to external VREFL.", 9 VDD (power) "Digital power. +5V for 5V interface logic; +3V for 3V logic.", 10 RSTSEL (in) "Power-On-Reset select. Determines VOUT after power-on reset. If tied to VDD, the DAC latch is set to mid-scale after power-on, and VOUT is (VREFH - VREFL)/2. If tied to DGND, the DAC latch is cleared ('0'), and VOUT is VREFL.", 11 ~{RST} (in) "Reset (active low)", 12 ~{CS} (in) "Chip select input (active low). Data are not clocked into SDI unless C\S\ is low.", 13 SCLK (in) "Serial clock input", 14 SDI (in) "Serial data input. Data are latched into input register on the rising edge of SCLK.", 15 ~{LDAC} (in) "Load DAC control input (active low). When L\D\A\C\ is low, the DAC latch is simultaneously updated with the content of the input register.", 16 DGND (power) "Digital ground"

## DAC8871SBPWR
designator U?
16-Bit Single Channel, Serial Interface, + / -18 V (High Voltage Bipolar) Output DAC, -40 to 105 degC, 16-pin SOP (PW16), Green (RoHS & no Sb/Br); Manufacturer: Texas Instruments; PartNumber: DAC8871SBPWR; DAC Channels: 1; Interface: Serial SPI; Power Consumption(Typ)(mW): 0.015; Resolution(Bits): 16; SubFamily: Precision DAC (=<10MSPS); DatasheetVersion: SBAS396A; PackageVersion: 4040064-4/G, 02/2011; PackageReference: PW16; PackageDescription: 16-Pin Plastic Small Outline, Body 5 x 4.4 mm, Pitch 0.65 mm; Supplier 1: Digi-Key; Supplier Part Number 1: DAC8871SBPWR-ND; Supplier 2: Mouser; Supplier Part Number 2: 595-DAC8871SBPWR; DNL(Max)(+/-LSB): 1; Eco-Plan: Green (RoHS & no Sb/Br); INL(Max)(+/-LSB): 1; Settling Time(us): 1; Mounting Technology: Surface Mount; Code_JEDEC: MO-153; ComponentLink1Description: Manufacturer URL; ComponentLink1URL: http://www.ti.com/; ComponentLink2Description: Datasheet; ComponentLink2URL: http://www.ti.com/general/docs/lit/getliterature.tsp?genericPartNumber=DAC8871&fileType=pdf; ComponentLink3Description: Package Specification; ComponentLink3URL: http://www.ti.com/lit/ml/mpds361/mpds361.pdf
footprint TI-PW16_N (SOP, 16-Leads, Body 5x4.4mm, Pitch 0.65mm, IPC Medium Density)
footprint TI-PW16_L (SOP, 16-Leads, Body 5x4.4mm, Pitch 0.65mm, IPC High Density)
footprint TI-PW16_M (SOP, 16-Leads, Body 5x4.4mm, Pitch 0.65mm, IPC Low Density)
pins: 1 VOUT (out) "Analog output of the DAC", 2 VCC (power) "Positive analog power supply: +15V", 3 VSS (power) "Negative analog power supply: -15V", 4 AGND (power) "Analog ground", 5 VREFH-F (in) "VREFH reference input (Force). Connect to external VREFH.", 6 VREFH-S (in) "VREFH reference input (Sense). Connect to external VREFH.", 7 VREFL-S (in) "VREFL reference input (Sense). Connect to external VREFL.", 8 VREFL-F (in) "VREFL reference input (Force). Connect to external VREFL.", 9 VDD (power) "Digital power. +5V for 5V interface logic; +3V for 3V logic.", 10 RSTSEL (in) "Power-On-Reset select. Determines VOUT after power-on reset. If tied to VDD, the DAC latch is set to mid-scale after power-on, and VOUT is (VREFH - VREFL)/2. If tied to DGND, the DAC latch is cleared ('0'), and VOUT is VREFL.", 11 ~{RST} (in) "Reset (active low)", 12 ~{CS} (in) "Chip select input (active low). Data are not clocked into SDI unless C\S\ is low.", 13 SCLK (in) "Serial clock input", 14 SDI (in) "Serial data input. Data are latched into input register on the rising edge of SCLK.", 15 ~{LDAC} (in) "Load DAC control input (active low). When L\D\A\C\ is low, the DAC latch is simultaneously updated with the content of the input register.", 16 DGND (power) "Digital ground"

## DAC8871SBPWRG4
designator U?
16-Bit Single Channel, Serial Interface, + / -18 V (High Voltage Bipolar) Output DAC, -40 to 105 degC, 16-pin SOP (PW16), Green (RoHS & no Sb/Br); Manufacturer: Texas Instruments; PartNumber: DAC8871SBPWRG4; DAC Channels: 1; Interface: Serial SPI; Power Consumption(Typ)(mW): 0.015; Resolution(Bits): 16; SubFamily: Precision DAC (=<10MSPS); DatasheetVersion: SBAS396A; PackageVersion: 4040064-4/G, 02/2011; PackageReference: PW16; PackageDescription: 16-Pin Plastic Small Outline, Body 5 x 4.4 mm, Pitch 0.65 mm; Supplier 1: Digi-Key; Supplier Part Number 1: DAC8871SBPWRG4-ND; Supplier 2: Mouser; Supplier Part Number 2: 595-DAC8871SBPWRG4; DNL(Max)(+/-LSB): 1; Eco-Plan: Green (RoHS & no Sb/Br); INL(Max)(+/-LSB): 1; Settling Time(us): 1; Mounting Technology: Surface Mount; Code_JEDEC: MO-153; ComponentLink1Description: Manufacturer URL; ComponentLink1URL: http://www.ti.com/; ComponentLink2Description: Datasheet; ComponentLink2URL: http://www.ti.com/general/docs/lit/getliterature.tsp?genericPartNumber=DAC8871&fileType=pdf; ComponentLink3Description: Package Specification; ComponentLink3URL: http://www.ti.com/lit/ml/mpds361/mpds361.pdf
footprint TI-PW16_N (SOP, 16-Leads, Body 5x4.4mm, Pitch 0.65mm, IPC Medium Density)
footprint TI-PW16_L (SOP, 16-Leads, Body 5x4.4mm, Pitch 0.65mm, IPC High Density)
footprint TI-PW16_M (SOP, 16-Leads, Body 5x4.4mm, Pitch 0.65mm, IPC Low Density)
pins: 1 VOUT (out) "Analog output of the DAC", 2 VCC (power) "Positive analog power supply: +15V", 3 VSS (power) "Negative analog power supply: -15V", 4 AGND (power) "Analog ground", 5 VREFH-F (in) "VREFH reference input (Force). Connect to external VREFH.", 6 VREFH-S (in) "VREFH reference input (Sense). Connect to external VREFH.", 7 VREFL-S (in) "VREFL reference input (Sense). Connect to external VREFL.", 8 VREFL-F (in) "VREFL reference input (Force). Connect to external VREFL.", 9 VDD (power) "Digital power. +5V for 5V interface logic; +3V for 3V logic.", 10 RSTSEL (in) "Power-On-Reset select. Determines VOUT after power-on reset. If tied to VDD, the DAC latch is set to mid-scale after power-on, and VOUT is (VREFH - VREFL)/2. If tied to DGND, the DAC latch is cleared ('0'), and VOUT is VREFL.", 11 ~{RST} (in) "Reset (active low)", 12 ~{CS} (in) "Chip select input (active low). Data are not clocked into SDI unless C\S\ is low.", 13 SCLK (in) "Serial clock input", 14 SDI (in) "Serial data input. Data are latched into input register on the rising edge of SCLK.", 15 ~{LDAC} (in) "Load DAC control input (active low). When L\D\A\C\ is low, the DAC latch is simultaneously updated with the content of the input register.", 16 DGND (power) "Digital ground"

## DAC8871SPW
designator U?
16-Bit Single Channel, Serial Interface, + / -18 V (High Voltage Bipolar) Output DAC, -40 to 105 degC, 16-pin SOP (PW16), Green (RoHS & no Sb/Br); Manufacturer: Texas Instruments; PartNumber: DAC8871SPW; DAC Channels: 1; INL(Max)(+/-LSB): 3; Interface: Serial SPI; Power Consumption(Typ)(mW): 0.015; Resolution(Bits): 16; SubFamily: Precision DAC (=<10MSPS); DatasheetVersion: SBAS396A; PackageVersion: 4040064-4/G, 02/2011; PackageReference: PW16; PackageDescription: 16-Pin Plastic Small Outline, Body 5 x 4.4 mm, Pitch 0.65 mm; Supplier 1: Digi-Key; Supplier Part Number 1: 296-22151-5-ND; Supplier 2: Newark; Supplier Part Number 2: 50M8839; Supplier 3: Mouser; Supplier Part Number 3: 595-DAC8871SPW; DNL(Max)(+/-LSB): 1; Eco-Plan: Green (RoHS & no Sb/Br); Settling Time(us): 1; Mounting Technology: Surface Mount; Code_JEDEC: MO-153; ComponentLink1Description: Manufacturer URL; ComponentLink1URL: http://www.ti.com/; ComponentLink2Description: Datasheet; ComponentLink2URL: http://www.ti.com/general/docs/lit/getliterature.tsp?genericPartNumber=DAC8871&fileType=pdf; ComponentLink3Description: Package Specification; ComponentLink3URL: http://www.ti.com/lit/ml/mpds361/mpds361.pdf
footprint TI-PW16_N (SOP, 16-Leads, Body 5x4.4mm, Pitch 0.65mm, IPC Medium Density)
footprint TI-PW16_L (SOP, 16-Leads, Body 5x4.4mm, Pitch 0.65mm, IPC High Density)
footprint TI-PW16_M (SOP, 16-Leads, Body 5x4.4mm, Pitch 0.65mm, IPC Low Density)
pins: 1 VOUT (out) "Analog output of the DAC", 2 VCC (power) "Positive analog power supply: +15V", 3 VSS (power) "Negative analog power supply: -15V", 4 AGND (power) "Analog ground", 5 VREFH-F (in) "VREFH reference input (Force). Connect to external VREFH.", 6 VREFH-S (in) "VREFH reference input (Sense). Connect to external VREFH.", 7 VREFL-S (in) "VREFL reference input (Sense). Connect to external VREFL.", 8 VREFL-F (in) "VREFL reference input (Force). Connect to external VREFL.", 9 VDD (power) "Digital power. +5V for 5V interface logic; +3V for 3V logic.", 10 RSTSEL (in) "Power-On-Reset select. Determines VOUT after power-on reset. If tied to VDD, the DAC latch is set to mid-scale after power-on, and VOUT is (VREFH - VREFL)/2. If tied to DGND, the DAC latch is cleared ('0'), and VOUT is VREFL.", 11 ~{RST} (in) "Reset (active low)", 12 ~{CS} (in) "Chip select input (active low). Data are not clocked into SDI unless C\S\ is low.", 13 SCLK (in) "Serial clock input", 14 SDI (in) "Serial data input. Data are latched into input register on the rising edge of SCLK.", 15 ~{LDAC} (in) "Load DAC control input (active low). When L\D\A\C\ is low, the DAC latch is simultaneously updated with the content of the input register.", 16 DGND (power) "Digital ground"

## DAC8871SPWG4
designator U?
16-Bit Single Channel, Serial Interface, + / -18 V (High Voltage Bipolar) Output DAC, -40 to 105 degC, 16-pin SOP (PW16), Green (RoHS & no Sb/Br); Manufacturer: Texas Instruments; PartNumber: DAC8871SPWG4; DAC Channels: 1; INL(Max)(+/-LSB): 3; Interface: Serial SPI; Power Consumption(Typ)(mW): 0.015; Resolution(Bits): 16; SubFamily: Precision DAC (=<10MSPS); DatasheetVersion: SBAS396A; PackageVersion: 4040064-4/G, 02/2011; PackageReference: PW16; PackageDescription: 16-Pin Plastic Small Outline, Body 5 x 4.4 mm, Pitch 0.65 mm; Supplier 1: Digi-Key; Supplier Part Number 1: DAC8871SPWG4-ND; Supplier 2: Mouser; Supplier Part Number 2: 595-DAC8871SPWG4; DNL(Max)(+/-LSB): 1; Eco-Plan: Green (RoHS & no Sb/Br); Settling Time(us): 1; Mounting Technology: Surface Mount; Code_JEDEC: MO-153; ComponentLink1Description: Manufacturer URL; ComponentLink1URL: http://www.ti.com/; ComponentLink2Description: Datasheet; ComponentLink2URL: http://www.ti.com/general/docs/lit/getliterature.tsp?genericPartNumber=DAC8871&fileType=pdf; ComponentLink3Description: Package Specification; ComponentLink3URL: http://www.ti.com/lit/ml/mpds361/mpds361.pdf
footprint TI-PW16_N (SOP, 16-Leads, Body 5x4.4mm, Pitch 0.65mm, IPC Medium Density)
footprint TI-PW16_L (SOP, 16-Leads, Body 5x4.4mm, Pitch 0.65mm, IPC High Density)
footprint TI-PW16_M (SOP, 16-Leads, Body 5x4.4mm, Pitch 0.65mm, IPC Low Density)
pins: 1 VOUT (out) "Analog output of the DAC", 2 VCC (power) "Positive analog power supply: +15V", 3 VSS (power) "Negative analog power supply: -15V", 4 AGND (power) "Analog ground", 5 VREFH-F (in) "VREFH reference input (Force). Connect to external VREFH.", 6 VREFH-S (in) "VREFH reference input (Sense). Connect to external VREFH.", 7 VREFL-S (in) "VREFL reference input (Sense). Connect to external VREFL.", 8 VREFL-F (in) "VREFL reference input (Force). Connect to external VREFL.", 9 VDD (power) "Digital power. +5V for 5V interface logic; +3V for 3V logic.", 10 RSTSEL (in) "Power-On-Reset select. Determines VOUT after power-on reset. If tied to VDD, the DAC latch is set to mid-scale after power-on, and VOUT is (VREFH - VREFL)/2. If tied to DGND, the DAC latch is cleared ('0'), and VOUT is VREFL.", 11 ~{RST} (in) "Reset (active low)", 12 ~{CS} (in) "Chip select input (active low). Data are not clocked into SDI unless C\S\ is low.", 13 SCLK (in) "Serial clock input", 14 SDI (in) "Serial data input. Data are latched into input register on the rising edge of SCLK.", 15 ~{LDAC} (in) "Load DAC control input (active low). When L\D\A\C\ is low, the DAC latch is simultaneously updated with the content of the input register.", 16 DGND (power) "Digital ground"

## DAC8871SPWR
designator U?
16-Bit Single Channel, Serial Interface, + / -18 V (High Voltage Bipolar) Output DAC, -40 to 105 degC, 16-pin SOP (PW16), Green (RoHS & no Sb/Br); Manufacturer: Texas Instruments; PartNumber: DAC8871SPWR; DAC Channels: 1; INL(Max)(+/-LSB): 3; Interface: Serial SPI; Power Consumption(Typ)(mW): 0.015; Resolution(Bits): 16; SubFamily: Precision DAC (=<10MSPS); DatasheetVersion: SBAS396A; PackageVersion: 4040064-4/G, 02/2011; PackageReference: PW16; PackageDescription: 16-Pin Plastic Small Outline, Body 5 x 4.4 mm, Pitch 0.65 mm; Supplier 1: Digi-Key; Supplier Part Number 1: DAC8871SPWR-ND; Supplier 2: Mouser; Supplier Part Number 2: 595-DAC8871SPWR; DNL(Max)(+/-LSB): 1; Eco-Plan: Green (RoHS & no Sb/Br); Settling Time(us): 1; Mounting Technology: Surface Mount; Code_JEDEC: MO-153; ComponentLink1Description: Manufacturer URL; ComponentLink1URL: http://www.ti.com/; ComponentLink2Description: Datasheet; ComponentLink2URL: http://www.ti.com/general/docs/lit/getliterature.tsp?genericPartNumber=DAC8871&fileType=pdf; ComponentLink3Description: Package Specification; ComponentLink3URL: http://www.ti.com/lit/ml/mpds361/mpds361.pdf
footprint TI-PW16_N (SOP, 16-Leads, Body 5x4.4mm, Pitch 0.65mm, IPC Medium Density)
footprint TI-PW16_L (SOP, 16-Leads, Body 5x4.4mm, Pitch 0.65mm, IPC High Density)
footprint TI-PW16_M (SOP, 16-Leads, Body 5x4.4mm, Pitch 0.65mm, IPC Low Density)
pins: 1 VOUT (out) "Analog output of the DAC", 2 VCC (power) "Positive analog power supply: +15V", 3 VSS (power) "Negative analog power supply: -15V", 4 AGND (power) "Analog ground", 5 VREFH-F (in) "VREFH reference input (Force). Connect to external VREFH.", 6 VREFH-S (in) "VREFH reference input (Sense). Connect to external VREFH.", 7 VREFL-S (in) "VREFL reference input (Sense). Connect to external VREFL.", 8 VREFL-F (in) "VREFL reference input (Force). Connect to external VREFL.", 9 VDD (power) "Digital power. +5V for 5V interface logic; +3V for 3V logic.", 10 RSTSEL (in) "Power-On-Reset select. Determines VOUT after power-on reset. If tied to VDD, the DAC latch is set to mid-scale after power-on, and VOUT is (VREFH - VREFL)/2. If tied to DGND, the DAC latch is cleared ('0'), and VOUT is VREFL.", 11 ~{RST} (in) "Reset (active low)", 12 ~{CS} (in) "Chip select input (active low). Data are not clocked into SDI unless C\S\ is low.", 13 SCLK (in) "Serial clock input", 14 SDI (in) "Serial data input. Data are latched into input register on the rising edge of SCLK.", 15 ~{LDAC} (in) "Load DAC control input (active low). When L\D\A\C\ is low, the DAC latch is simultaneously updated with the content of the input register.", 16 DGND (power) "Digital ground"

## DAC8871SPWRG4
designator U?
16-Bit Single Channel, Serial Interface, + / -18 V (High Voltage Bipolar) Output DAC, -40 to 105 degC, 16-pin SOP (PW16), Green (RoHS & no Sb/Br); Manufacturer: Texas Instruments; PartNumber: DAC8871SPWRG4; DAC Channels: 1; INL(Max)(+/-LSB): 3; Interface: Serial SPI; Power Consumption(Typ)(mW): 0.015; Resolution(Bits): 16; SubFamily: Precision DAC (=<10MSPS); DatasheetVersion: SBAS396A; PackageVersion: 4040064-4/G, 02/2011; PackageReference: PW16; PackageDescription: 16-Pin Plastic Small Outline, Body 5 x 4.4 mm, Pitch 0.65 mm; Supplier 1: Digi-Key; Supplier Part Number 1: DAC8871SPWRG4-ND; Supplier 2: Mouser; Supplier Part Number 2: 595-DAC8871SPWRG4; DNL(Max)(+/-LSB): 1; Eco-Plan: Green (RoHS & no Sb/Br); Settling Time(us): 1; Mounting Technology: Surface Mount; Code_JEDEC: MO-153; ComponentLink1Description: Manufacturer URL; ComponentLink1URL: http://www.ti.com/; ComponentLink2Description: Datasheet; ComponentLink2URL: http://www.ti.com/general/docs/lit/getliterature.tsp?genericPartNumber=DAC8871&fileType=pdf; ComponentLink3Description: Package Specification; ComponentLink3URL: http://www.ti.com/lit/ml/mpds361/mpds361.pdf
footprint TI-PW16_N (SOP, 16-Leads, Body 5x4.4mm, Pitch 0.65mm, IPC Medium Density)
footprint TI-PW16_L (SOP, 16-Leads, Body 5x4.4mm, Pitch 0.65mm, IPC High Density)
footprint TI-PW16_M (SOP, 16-Leads, Body 5x4.4mm, Pitch 0.65mm, IPC Low Density)
pins: 1 VOUT (out) "Analog output of the DAC", 2 VCC (power) "Positive analog power supply: +15V", 3 VSS (power) "Negative analog power supply: -15V", 4 AGND (power) "Analog ground", 5 VREFH-F (in) "VREFH reference input (Force). Connect to external VREFH.", 6 VREFH-S (in) "VREFH reference input (Sense). Connect to external VREFH.", 7 VREFL-S (in) "VREFL reference input (Sense). Connect to external VREFL.", 8 VREFL-F (in) "VREFL reference input (Force). Connect to external VREFL.", 9 VDD (power) "Digital power. +5V for 5V interface logic; +3V for 3V logic.", 10 RSTSEL (in) "Power-On-Reset select. Determines VOUT after power-on reset. If tied to VDD, the DAC latch is set to mid-scale after power-on, and VOUT is (VREFH - VREFL)/2. If tied to DGND, the DAC latch is cleared ('0'), and VOUT is VREFL.", 11 ~{RST} (in) "Reset (active low)", 12 ~{CS} (in) "Chip select input (active low). Data are not clocked into SDI unless C\S\ is low.", 13 SCLK (in) "Serial clock input", 14 SDI (in) "Serial data input. Data are latched into input register on the rising edge of SCLK.", 15 ~{LDAC} (in) "Load DAC control input (active low). When L\D\A\C\ is low, the DAC latch is simultaneously updated with the content of the input register.", 16 DGND (power) "Digital ground"